# Altium footprint library F407.PcbLib: 2 footprints
Each footprint in its own frame and in the unit in brackets; x right, y up, seen from the top. Pads: shape width x height; smd on the part's side, far side on the other; paste and mask are expansions set on the pad; w line width, h text height; cw(c..) or ccw(c..) is an arc to the next point about the centre after c.
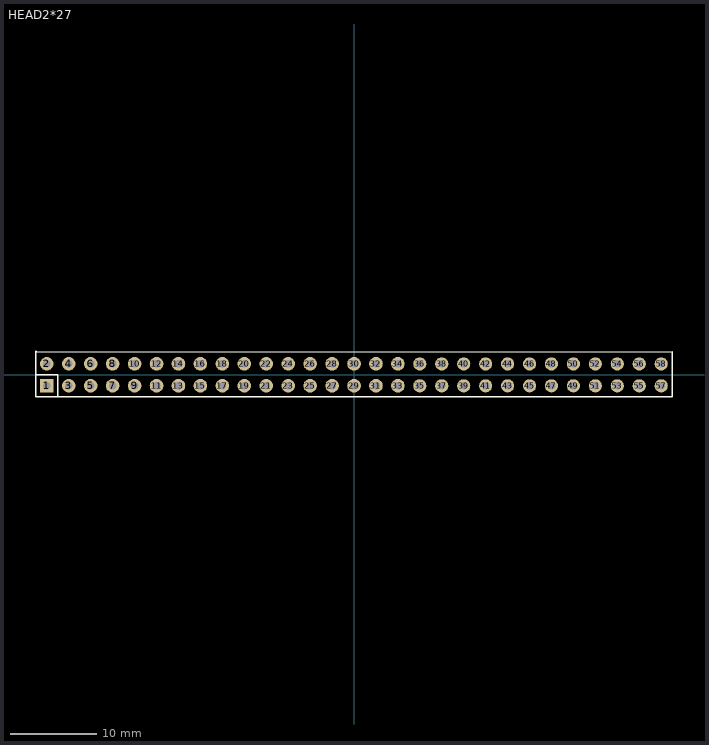
[diagram p0: the footprints below, top view; thin cyan lines are the x and y axes]

## HEAD2*27 [mil]
pads (58):
  rect 62x62 hole 35: 1(-1399.79,-49.79)
  round 62 hole 35: 2(-1399.79,50.21) 3(-1299.79,-49.79) 4(-1299.79,50.21) 5(-1199.79,-49.79) 6(-1199.79,50.21) 7(-1099.79,-49.79) 8(-1099.79,50.21) 9(-999.79,-49.79) 10(-999.79,50.21) 11(-899.79,-49.79) 12(-899.79,50.21) 13(-799.79,-49.79) 14(-799.79,50.21) 15(-699.79,-49.79) 16(-699.79,50.21) 17(-599.79,-49.79) 18(-599.79,50.21) 19(-499.79,-49.79) 20(-499.79,50.21) 21(-399.79,-49.79) 22(-399.79,50.21) 23(-299.79,-49.79) 24(-299.79,50.21) 25(-199.79,-49.79) 26(-199.79,50.21) 27(-99.79,-49.79) 28(-99.79,50.21) 29(0.21,-49.79) 30(0.21,50.21) 31(100.21,-49.79) 32(100.21,50.21) 33(200.21,-49.79) 34(200.21,50.21)
  round 60 hole 35: 35(299.79,-50.21) 36(299.79,49.79) 37(399.79,-50.21) 38(399.79,49.79) 39(499.79,-50.21) 40(499.79,49.79) 41(599.79,-50.21) 42(599.79,49.79) 43(699.79,-50.21) 44(699.79,49.79) 45(799.79,-50.21) 46(799.79,49.79) 47(899.79,-50.21) 48(899.79,49.79) 49(999.79,-50.21) 50(999.79,49.79) 51(1099.79,-50.21) 52(1099.79,49.79) 53(1199.79,-50.21) 54(1199.79,49.79) 55(1299.79,-50.21) 56(1299.79,49.79) 57(1399.79,-50.21) 58(1399.79,49.79)
Top Overlay:
  lines w7: -1449.79,0.97 -1349.03,0.97 -1349.03,-99.79 ; -1448.18,102.27 1449.79,104.79 1449.79,-99.79 250.21,-99.79 -1449.79,-99.79 -1449.79,100.21 -1449.79,105.66 -1448.18,107.27

## KEY [mil]